# Altium schematic symbol library Schlib_soldeerstation.SchLib: 36 symbols
Pins are listed as number, name and electrical type; pins without a type are passive.

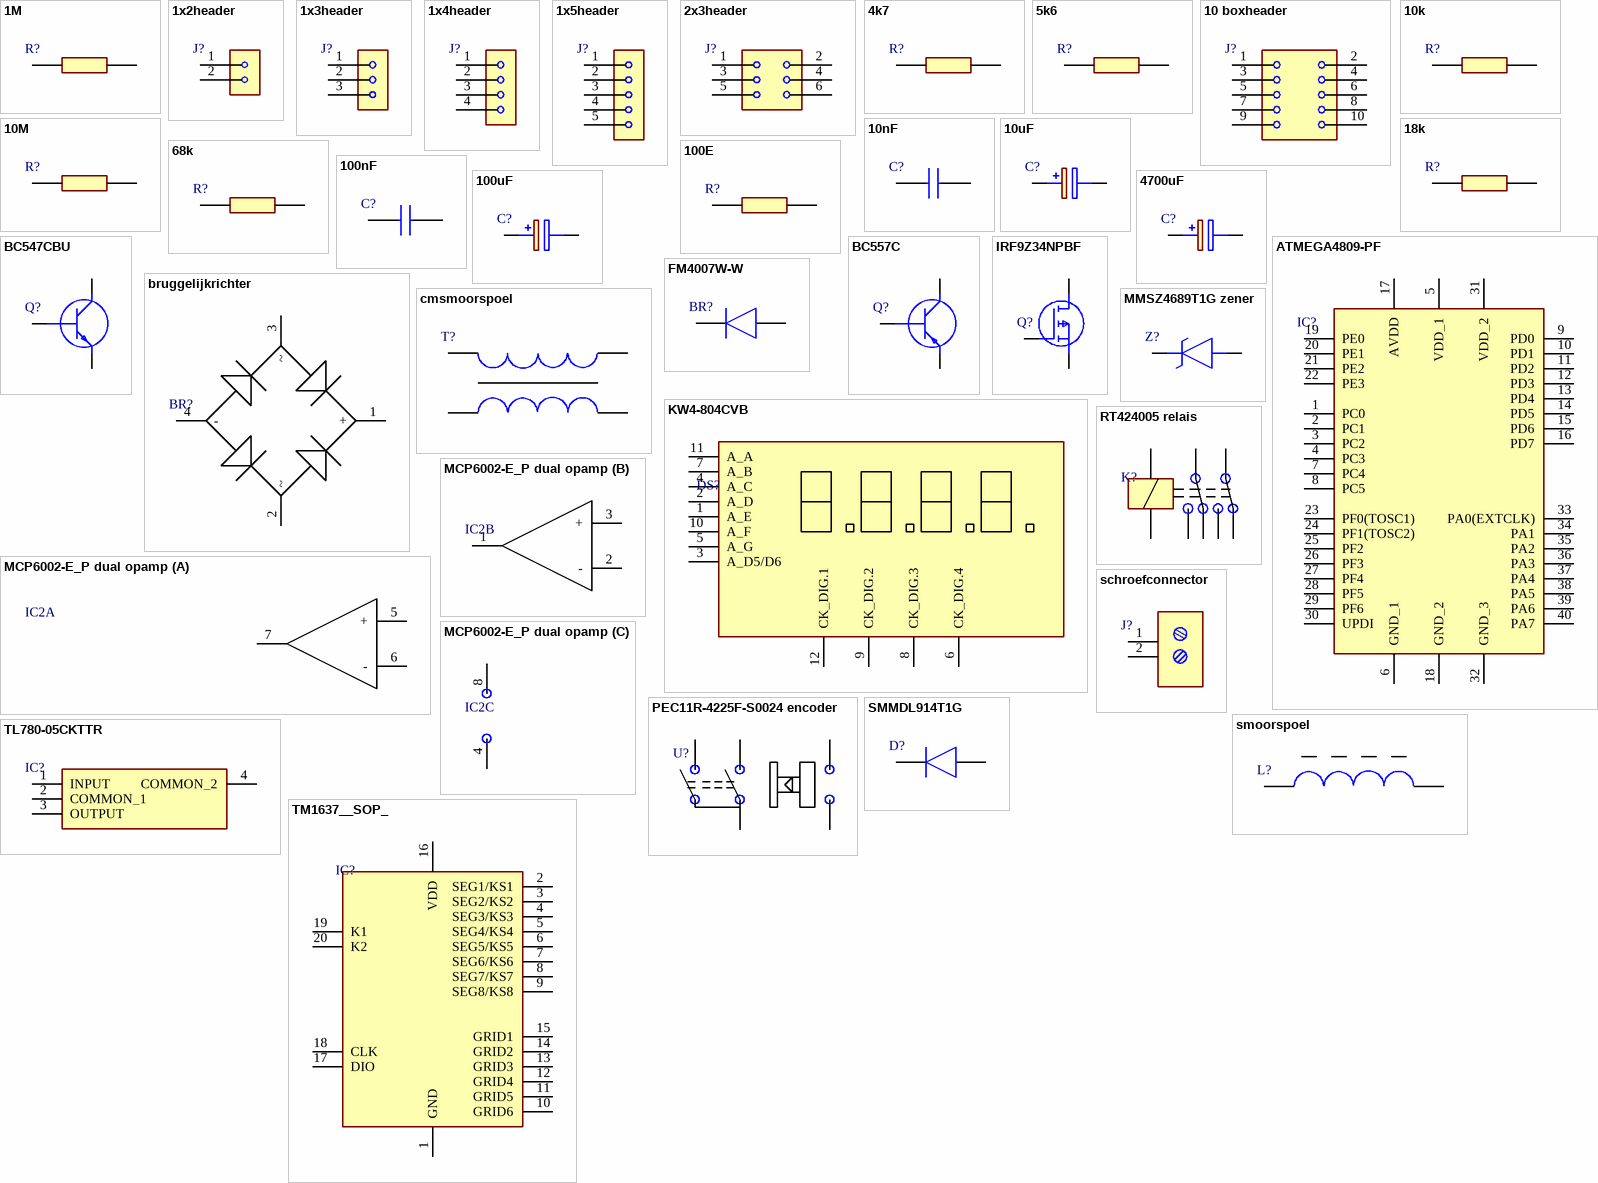
[diagram p0: symbols 1M to TM1637__SOP_]

## 1M
designator R?
Resistor; Manufacturer_Name: TE Connectivity; Manufacturer_Part_Number: CPF0805B100RE1; Datasheet Link: https://datasheet.datasheetarchive.com/originals/distributors/DKDS-21/401696.pdf; Height: 0.65mm; Mouser Part Number: 279-CPF0805B100RE1; Mouser Price/Stock: https://www.mouser.co.uk/ProductDetail/TE-Connectivity-Holsworthy/CPF0805B100RE1?qs=9ylKvqdyudkCWLPT1QvLZQ%3D%3D; Arrow Part Number: CPF0805B100RE1; Arrow Price/Stock: https://www.arrow.com/en/products/cpf0805b100re1/te-connectivity?region=nac
footprint 1M
pins: 1, 2

## 1x2header
designator J?
Connector; Manufacturer_Name: Molex; Manufacturer_Part_Number: 0022232021; Datasheet Link: https://www.molex.com/webdocs/datasheets/pdf/en-us//0022232021_PCB_HEADERS.pdf; Height: 11.05mm; Mouser Part Number: N/A; Mouser Price/Stock: https://www.mouser.co.uk/ProductDetail/Molex/0022232021?qs=PBcRNPEHKspVhuxYRaP9bQ%3D%3D; Arrow Part Number: 0022232021; Arrow Price/Stock: https://www.arrow.com/en/products/0022232021/molex?region=europe
footprint HDR1X2
pins: 1, 2

## 1x3header
designator J?
Connector; Manufacturer_Name: Molex; Manufacturer_Part_Number: 0022035035; Datasheet Link: https://www.molex.com/pdm_docs/sd/022035035_sd.pdf; Height: 6.1mm; Mouser Part Number: N/A; Mouser Price/Stock: https://www.mouser.co.uk/ProductDetail/Molex/0022035035?qs=PBcRNPEHKsp8%252BOnk6fhZPA%3D%3D; Arrow Part Number: 0022035035; Arrow Price/Stock: https://www.arrow.com/en/products/0022035035/molex
footprint HDR1X3
pins: 1, 2, 3

## 1x4header
designator J?
Connector; Manufacturer_Name: Molex; Manufacturer_Part_Number: 0009652048; Datasheet Link: https://www.molex.com/pdm_docs/sd/009652048_sd.pdf; Height: 14.25mm; Mouser Part Number: N/A; Mouser Price/Stock: https://www.mouser.co.uk/ProductDetail/Molex/0009652048?qs=PBcRNPEHKsr%252BMEGD33m%2F9w%3D%3D; Arrow Part Number: 0009652048; Arrow Price/Stock: https://www.arrow.com/en/products/0009652048/molex?region=europe
footprint HDR1X4
pins: 1, 2, 3, 4

## 1x5header
designator J?
Connector; Manufacturer_Name: Molex; Manufacturer_Part_Number: 0353620550; Datasheet Link: https://www.molex.com/pdm_docs/sd/353620550_sd.pdf; Height: 8.5mm; Mouser Part Number: N/A; Mouser Price/Stock: https://www.mouser.com/Search/Refine.aspx?Keyword=N%2FA; Arrow Part Number: 0353620550; Arrow Price/Stock: https://www.arrow.com/en/products/0353620550/molex
footprint HDR1X5
pins: 1, 2, 3, 4, 5

## 2x3header
designator J?
Connector; Manufacturer_Name: Amphenol; Manufacturer_Part_Number: 10129381-906002BLF; Datasheet Link: https://componentsearchengine.com/Datasheets/1/10129381-906002BLF.pdf; Height: 8.58mm; Mouser Part Number: 649-1012938190602BLF; Mouser Price/Stock: https://www.mouser.co.uk/ProductDetail/Amphenol-FCI/10129381-906002BLF?qs=DXv0QSHKF4zSKXKyBbBVMw%3D%3D; Arrow Part Number: 10129381-906002BLF; Arrow Price/Stock: https://www.arrow.com/en/products/10129381-906002blf/amphenol-fci?region=europe
footprint HDR2X3
pins: 1, 2, 3, 4, 5, 6

## 4k7
designator R?
Resistor; Manufacturer_Name: TE Connectivity; Manufacturer_Part_Number: CPF0805B100RE1; Datasheet Link: https://datasheet.datasheetarchive.com/originals/distributors/DKDS-21/401696.pdf; Height: 0.65mm; Mouser Part Number: 279-CPF0805B100RE1; Mouser Price/Stock: https://www.mouser.co.uk/ProductDetail/TE-Connectivity-Holsworthy/CPF0805B100RE1?qs=9ylKvqdyudkCWLPT1QvLZQ%3D%3D; Arrow Part Number: CPF0805B100RE1; Arrow Price/Stock: https://www.arrow.com/en/products/cpf0805b100re1/te-connectivity?region=nac
footprint 4k7
pins: 1, 2

## 5k6
designator R?
Resistor; Manufacturer_Name: TE Connectivity; Manufacturer_Part_Number: CPF0805B100RE1; Datasheet Link: https://datasheet.datasheetarchive.com/originals/distributors/DKDS-21/401696.pdf; Height: 0.65mm; Mouser Part Number: 279-CPF0805B100RE1; Mouser Price/Stock: https://www.mouser.co.uk/ProductDetail/TE-Connectivity-Holsworthy/CPF0805B100RE1?qs=9ylKvqdyudkCWLPT1QvLZQ%3D%3D; Arrow Part Number: CPF0805B100RE1; Arrow Price/Stock: https://www.arrow.com/en/products/cpf0805b100re1/te-connectivity?region=nac
footprint 5k6
pins: 1, 2

## 10 boxheader
designator J?
Connector; Manufacturer_Name: Molex; Manufacturer_Part_Number: 0010897100; Datasheet Link: http://www.molex.com/pdm_docs/sd/010897100_sd.pdf; Height: 8.64mm; Mouser Part Number: N/A; Mouser Price/Stock: https://www.mouser.co.uk/ProductDetail/Molex/0010897100?qs=PBcRNPEHKsqIDCZzUxhahw%3D%3D; Arrow Part Number: 0010897100; Arrow Price/Stock: https://www.arrow.com/en/products/0010897100/molex?region=nac
footprint 10BoxHeader
pins: 1, 2, 3, 4, 5, 6, 7, 8, 9, 10

## 10k
designator R?
Resistor; Manufacturer_Name: TE Connectivity; Manufacturer_Part_Number: CPF0805B100RE1; Datasheet Link: https://datasheet.datasheetarchive.com/originals/distributors/DKDS-21/401696.pdf; Height: 0.65mm; Mouser Part Number: 279-CPF0805B100RE1; Mouser Price/Stock: https://www.mouser.co.uk/ProductDetail/TE-Connectivity-Holsworthy/CPF0805B100RE1?qs=9ylKvqdyudkCWLPT1QvLZQ%3D%3D; Arrow Part Number: CPF0805B100RE1; Arrow Price/Stock: https://www.arrow.com/en/products/cpf0805b100re1/te-connectivity?region=nac
footprint 10k
pins: 1, 2

## 10M
designator R?
Resistor; Manufacturer_Name: TE Connectivity; Manufacturer_Part_Number: CPF0805B100RE1; Datasheet Link: https://datasheet.datasheetarchive.com/originals/distributors/DKDS-21/401696.pdf; Height: 0.65mm; Mouser Part Number: 279-CPF0805B100RE1; Mouser Price/Stock: https://www.mouser.co.uk/ProductDetail/TE-Connectivity-Holsworthy/CPF0805B100RE1?qs=9ylKvqdyudkCWLPT1QvLZQ%3D%3D; Arrow Part Number: CPF0805B100RE1; Arrow Price/Stock: https://www.arrow.com/en/products/cpf0805b100re1/te-connectivity?region=nac
footprint 10M
pins: 1, 2

## 10nF
designator C?
Capacitor; Manufacturer_Name: AVX; Manufacturer_Part_Number: 0402YC104MAT2A; Datasheet Link: http://www.mouser.com/catalog/supplier/library/pdf/AVXSurfaceMountCeramic.pdf; Height: 0.56mm; Mouser Part Number: 581-0402YC104MAT2A; Mouser Price/Stock: https://www.mouser.co.uk/ProductDetail/AVX/0402YC104MAT2A?qs=O2%2FeDh0sX9yiCaLwpXy1bw%3D%3D
footprint 10nF
pins: 1, 2

## 10uF
designator C?
Capacitor Polarised 860020672010; Manufacturer_Name: Wurth Elektronik; Datasheet Link: https://componentsearchengine.com//860020672010.pdf; Height: 12.5mm; Mouser2 Part Number: 710-860020672010; Mouser2 Price/Stock: https://www.mouser.com/Search/Refine.aspx?Keyword=710-860020672010; Manufacturer_Part_Number: 860020672010
footprint 10uf
pins: 1 +, 2 -

## 18k
designator R?
Resistor; Manufacturer_Name: TE Connectivity; Manufacturer_Part_Number: CPF0805B100RE1; Datasheet Link: https://datasheet.datasheetarchive.com/originals/distributors/DKDS-21/401696.pdf; Height: 0.65mm; Mouser Part Number: 279-CPF0805B100RE1; Mouser Price/Stock: https://www.mouser.co.uk/ProductDetail/TE-Connectivity-Holsworthy/CPF0805B100RE1?qs=9ylKvqdyudkCWLPT1QvLZQ%3D%3D; Arrow Part Number: CPF0805B100RE1; Arrow Price/Stock: https://www.arrow.com/en/products/cpf0805b100re1/te-connectivity?region=nac
footprint 18k
pins: 1, 2

## 68k
designator R?
Resistor; Manufacturer_Name: TE Connectivity; Manufacturer_Part_Number: CPF0805B100RE1; Datasheet Link: https://datasheet.datasheetarchive.com/originals/distributors/DKDS-21/401696.pdf; Height: 0.65mm; Mouser Part Number: 279-CPF0805B100RE1; Mouser Price/Stock: https://www.mouser.co.uk/ProductDetail/TE-Connectivity-Holsworthy/CPF0805B100RE1?qs=9ylKvqdyudkCWLPT1QvLZQ%3D%3D; Arrow Part Number: CPF0805B100RE1; Arrow Price/Stock: https://www.arrow.com/en/products/cpf0805b100re1/te-connectivity?region=nac
footprint 68k
pins: 1, 2

## 100E
designator R?
Resistor; Manufacturer_Name: TE Connectivity; Manufacturer_Part_Number: CPF0805B100RE1; Datasheet Link: https://datasheet.datasheetarchive.com/originals/distributors/DKDS-21/401696.pdf; Height: 0.65mm; Mouser Part Number: 279-CPF0805B100RE1; Mouser Price/Stock: https://www.mouser.co.uk/ProductDetail/TE-Connectivity-Holsworthy/CPF0805B100RE1?qs=9ylKvqdyudkCWLPT1QvLZQ%3D%3D; Arrow Part Number: CPF0805B100RE1; Arrow Price/Stock: https://www.arrow.com/en/products/cpf0805b100re1/te-connectivity?region=nac
footprint 100ohm
pins: 1, 2

## 100nF
designator C?
Capacitor; Manufacturer_Name: AVX; Manufacturer_Part_Number: 0402YC104MAT2A; Datasheet Link: http://www.mouser.com/catalog/supplier/library/pdf/AVXSurfaceMountCeramic.pdf; Height: 0.56mm; Mouser Part Number: 581-0402YC104MAT2A; Mouser Price/Stock: https://www.mouser.co.uk/ProductDetail/AVX/0402YC104MAT2A?qs=O2%2FeDh0sX9yiCaLwpXy1bw%3D%3D
footprint 100nF
pins: 1, 2

## 100uF
designator C?
Capacitor Polarised RGA101M1HBK-0811G; Manufacturer_Name: Lelon; Datasheet Link: https://www.arrow.com/en/products/rga101m1hbk-0811g/lelon-electronics; Height: 13mm; Manufacturer_Part_Number: RGA101M1HBK-0811G
footprint 100uf
pins: 1 +, 2 -

## 4700uF
designator C?
Capacitor Polarised 50PK4700MEFC18X40; Manufacturer_Name: Rubycon; Datasheet Link: https://componentsearchengine.com//50PK4700MEFC18X40.pdf; Height: 41.5mm; Mouser2 Part Number: 232-50PK4700MEFC18X4; Mouser2 Price/Stock: https://www.mouser.com/Search/Refine.aspx?Keyword=232-50PK4700MEFC18X4; Manufacturer_Part_Number: 50PK4700MEFC18X40
footprint 4700uf
pins: 1 +, 2 -

## ATMEGA4809-PF
designator IC?
Integrated Circuit; Manufacturer_Name: Microchip; Manufacturer_Part_Number: ATMEGA4809-PF; Datasheet Link: http://ww1.microchip.com/downloads/en/DeviceDoc/40-pin-Data-Sheet-megaAVR-0-series-DS40002104A.pdf; Height: 6.35mm; Mouser Part Number: 556-ATMEGA4809-PF; Mouser Price/Stock: https://www.mouser.co.uk/ProductDetail/Microchip-Technology-Atmel/ATMEGA4809-PF?qs=T3oQrply3y9UlpZbCygk%252BQ%3D%3D
footprint ATMEGA4809-PF
pins: 1 PC0, 2 PC1, 3 PC2, 4 PC3, 5 VDD_1, 6 GND_1, 7 PC4, 8 PC5, 9 PD0, 10 PD1, 11 PD2, 12 PD3, 13 PD4, 14 PD5, 15 PD6, 16 PD7, 17 AVDD, 18 GND_2, 19 PE0, 20 PE1, 21 PE2, 22 PE3, 23 PF0(TOSC1), 24 PF1(TOSC2), 25 PF2, 26 PF3, 27 PF4, 28 PF5, 29 PF6, 30 UPDI, 31 VDD_2, 32 GND_3, 33 PA0(EXTCLK), 34 PA1, 35 PA2, 36 PA3, 37 PA4, 38 PA5, 39 PA6, 40 PA7

## BC547CBU
designator Q?
Transistor BJT NPN; Manufacturer_Name: ON Semiconductor; Manufacturer_Part_Number: BC547CBU; Datasheet Link: https://www.onsemi.com/pdf/datasheet/bc550-d.pdf; Height: 5.33mm
footprint BC547CBU
pins: 1 C, 2 B, 3 E

## BC557C
designator Q?
Transistor BJT PNP; Manufacturer_Name: NXP; Manufacturer_Part_Number: BC557C; Datasheet Link: http://uk.rs-online.com/web/p/products/1124775; Height: 5.2mm; Mouser Part Number: 771-BC557C; Mouser Price/Stock: https://www.mouser.co.uk/ProductDetail/NXP-Semiconductors/BC557C?qs=84A%2FDAdkstLO1yR4NjQrgg%3D%3D
footprint BC557C
pins: 1 E, 2 B, 3 C

## bruggelijkrichter
designator BR?
Bridge Rectifier GBU606-G; Manufacturer_Name: Comchip Technology; Datasheet Link: https://www.comchiptech.com/product.php?id=2217; Height: 20.95mm; Manufacturer_Part_Number: GBU606-G
footprint GBU606G
pins: 1 +, 2 ~, 3 ~, 4 -

## cmsmoorspoel
designator T?
Transformer CM2545X171B-10; Manufacturer_Name: Laird Technologies; Datasheet Link: https://datasheet.datasheetarchive.com/originals/dk/DKDS-7/122753.pdf; Height: 9.5mm; Manufacturer_Part_Number: CM2545X171B-10
footprint CMsmoorspoel
pins: 1 PRI+, 2 SEC+, 3 SEC-, 4 PRI-

## FM4007W-W
designator BR?
Bridge Rectifier; Manufacturer_Name: Rectron; Manufacturer_Part_Number: FM4007W-W; Datasheet Link: https://componentsearchengine.com//FM4007W-W.pdf; Height: 2.31mm; Mouser2 Part Number: 583-FM4007W-W; Mouser2 Price/Stock: https://www.mouser.com/Search/Refine.aspx?Keyword=583-FM4007W-W
footprint fm4007
pins: 1 K, 2 A

## IRF9Z34NPBF
designator Q?
MOSFET (P-Channel); Manufacturer_Name: Infineon; Manufacturer_Part_Number: IRF9Z34NPBF; Datasheet Link: https://componentsearchengine.com//IRF9Z34NPBF.pdf; Height: 4.69mm; Mouser2 Part Number: 942-IRF9Z34NPBF; Mouser2 Price/Stock: https://www.mouser.com/Search/Refine.aspx?Keyword=942-IRF9Z34NPBF
footprint irf9z34npbf
pins: 1 G, 2 S, 3 D

## KW4-804CVB
designator DS?
Display; Manufacturer_Name: Luckylight; Manufacturer_Part_Number: KW4-804CVB; Datasheet Link: https://www.tme.eu/Document/21b6c1f82a45ad996bb1bfe0c31af292/KW4-804XVB.pdf; Height: 7.75mm
footprint kw4
pins: 1 A_E, 2 A_D, 3 A_D5/D6, 4 A_C, 5 A_G, 6 CK_DIG.4, 7 A_B, 8 CK_DIG.3, 9 CK_DIG.2, 10 A_F, 11 A_A, 12 CK_DIG.1

## MCP6002-E_P dual opamp
designator IC2
Integrated Circuit; Manufacturer_Name: Microchip; Manufacturer_Part_Number: MCP6002-E/P; Datasheet Link: https://componentsearchengine.com//MCP6002-E_P.pdf; Height: 5.334mm; Mouser2 Part Number: 579-MCP6002-E/P; Mouser2 Price/Stock: https://www.mouser.com/Search/Refine.aspx?Keyword=579-MCP6002-E%2FP
footprint mcp6002
part A pins: 5 +, 6 -, 7 VOUTB
part B pins: 1 VOUTA, 2 -, 3 +
part C pins: 4 VSS, 8 VDD

## MMSZ4689T1G zener
designator Z?
Zener Diode; Manufacturer_Name: ON Semiconductor; Manufacturer_Part_Number: MMSZ4689T1G; Datasheet Link: https://componentsearchengine.com//MMSZ4689T1G.pdf; Height: 1.35mm; Mouser2 Part Number: 863-MMSZ4689T1G; Mouser2 Price/Stock: https://www.mouser.com/Search/Refine.aspx?Keyword=863-MMSZ4689T1G
footprint mmsz4
pins: 1 K, 2 A

## PEC11R-4225F-S0024 encoder
designator U?
draai encoder met drukknop; Manufacturer_Name: Bourns; Manufacturer_Part_Number: PEC11R-4225F-S0024; Datasheet Link: https://componentsearchengine.com/Datasheets/1/PEC11R-4225F-S0024.pdf; Mouser Part Number: 652-PEC11R-4225F-S24; Mouser Price/Stock: https://www.mouser.co.uk/ProductDetail/Bourns/PEC11R-4225F-S0024?qs=Zq5ylnUbLm4N6UNkPX3pkQ%3D%3D; Arrow Part Number: PEC11R-4225F-S0024; Arrow Price/Stock: https://www.arrow.com/en/products/pec11r-4225f-s0024/bourns?region=nac
footprint PEC11R-4225F-S0024
pins: 1, 2, 3, 4, 5

## RT424005 relais
designator K?
Relay or Contactor; Manufacturer_Name: TE Connectivity; Manufacturer_Part_Number: RT424005; Datasheet Link: https://componentsearchengine.com//RT424005.pdf; Mouser2 Part Number: 655-RT424005; Mouser2 Price/Stock: https://www.mouser.com/Search/Refine.aspx?Keyword=655-RT424005
footprint RT42005
pins: 1 A1_COIL, 2 12_NC, 3 11_COM, 4 14_NO, 5 24_NO, 6 21_COM, 7 22_NC, 8 A2_COIL

## schroefconnector
designator J?
Connector 1716020000; Manufacturer_Name: Weidmuller; Datasheet Link: https://catalog.weidmueller.com/catalog/Start.do?ObjectID=1716020000&_ga=2.21797499.1716783809.1613378202-511725545.1613378202; Manufacturer_Part_Number: 1716020000
footprint schroefconnector
pins: 1, 2

## SMMDL914T1G
designator D?
Diode SMMDL914T1G; Manufacturer_Name: ON Semiconductor; Datasheet Link: https://componentsearchengine.com//SMMDL914T1G.pdf; Height: 1.1mm; Mouser2 Part Number: 863-SMMDL914T1G; Mouser2 Price/Stock: https://www.mouser.com/Search/Refine.aspx?Keyword=863-SMMDL914T1G; Manufacturer_Part_Number: SMMDL914T1G
footprint smmdl914
pins: 1 K, 2 A

## smoorspoel
designator L?
Inductor VLS6045EX-100M-H; Manufacturer_Name: TDK; Datasheet Link: https://componentsearchengine.com//VLS6045EX-100M-H.pdf; Mouser2 Part Number: 810-VLS6045EX-100M-H; Mouser2 Price/Stock: https://www.mouser.com/Search/Refine.aspx?Keyword=810-VLS6045EX-100M-H; Manufacturer_Part_Number: VLS6045EX-100M-H
footprint smoorspoel
pins: 1, 2

## TL780-05CKTTR
designator IC?  (net tie)
Integrated Circuit spanningsregelaar; Manufacturer_Name: Texas Instruments; Manufacturer_Part_Number: TL780-05CKTTR; Datasheet Link: http://www.ti.com/general/docs/suppproductinfo.tsp?distId=26&gotoUrl=http%3A%2F%2Fwww.ti.com%2Flit%2Fgpn%2Ftl780; Height: 5.08mm
footprint TL78005CKTTR
pins: 1 INPUT, 2 COMMON_1, 3 OUTPUT, 4 COMMON_2

## TM1637__SOP_
designator IC?
Integrated Circuit; Manufacturer_Name: TITAN MICRO ELECTRONICS; Manufacturer_Part_Number: TM1637 (SOP); Datasheet Link: https://www.mcielectronics.cl/website_MCI/static/documents/Datasheet_TM1637.pdf; Height: 2.8mm
footprint tm1637
pins: 1 GND, 2 SEG1/KS1, 3 SEG2/KS2, 4 SEG3/KS3, 5 SEG4/KS4, 6 SEG5/KS5, 7 SEG6/KS6, 8 SEG7/KS7, 9 SEG8/KS8, 10 GRID6, 11 GRID5, 12 GRID4, 13 GRID3, 14 GRID2, 15 GRID1, 16 VDD, 17 DIO, 18 CLK, 19 K1, 20 K2